# Altium footprint library FDA69N25.PcbLib: 1 footprints
Each footprint in its own frame and in the unit in brackets; x right, y up, seen from the top. Pads: shape width x height; smd on the part's side, far side on the other; paste and mask are expansions set on the pad; w line width, h text height; cw(c..) or ccw(c..) is an arc to the next point about the centre after c.
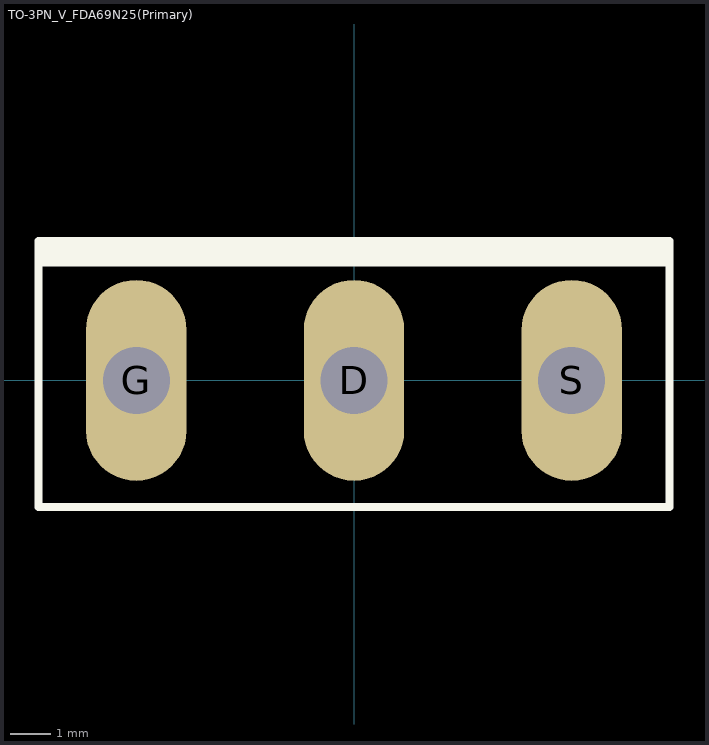
[diagram p0: the footprint, top view; thin cyan lines are the x and y axes]

## TO-3PN_V_FDA69N25(Primary) [mil]
pads (3):
  oval 99x198 hole 66: D(0,0) G(-214.57,0) S(214.57,0)
Top Overlay:
  region: -311.16,137.5 311.02,137.5 311.02,112.55 -311.16,112.55
  lines w8: -311.02,-125 -311.02,137.5 311.02,137.5 311.02,-125 -311.02,-125
Mechanical 1:
  text "S" at 205.61,-85.06 h73.82
  text "G" at -225.63,-85.05 h73.82
  text "D" at -10.02,-85.01 h73.82